# Altium integrated library Altera APEX 20KE.IntLib: 235 symbols (part 43 of 49)
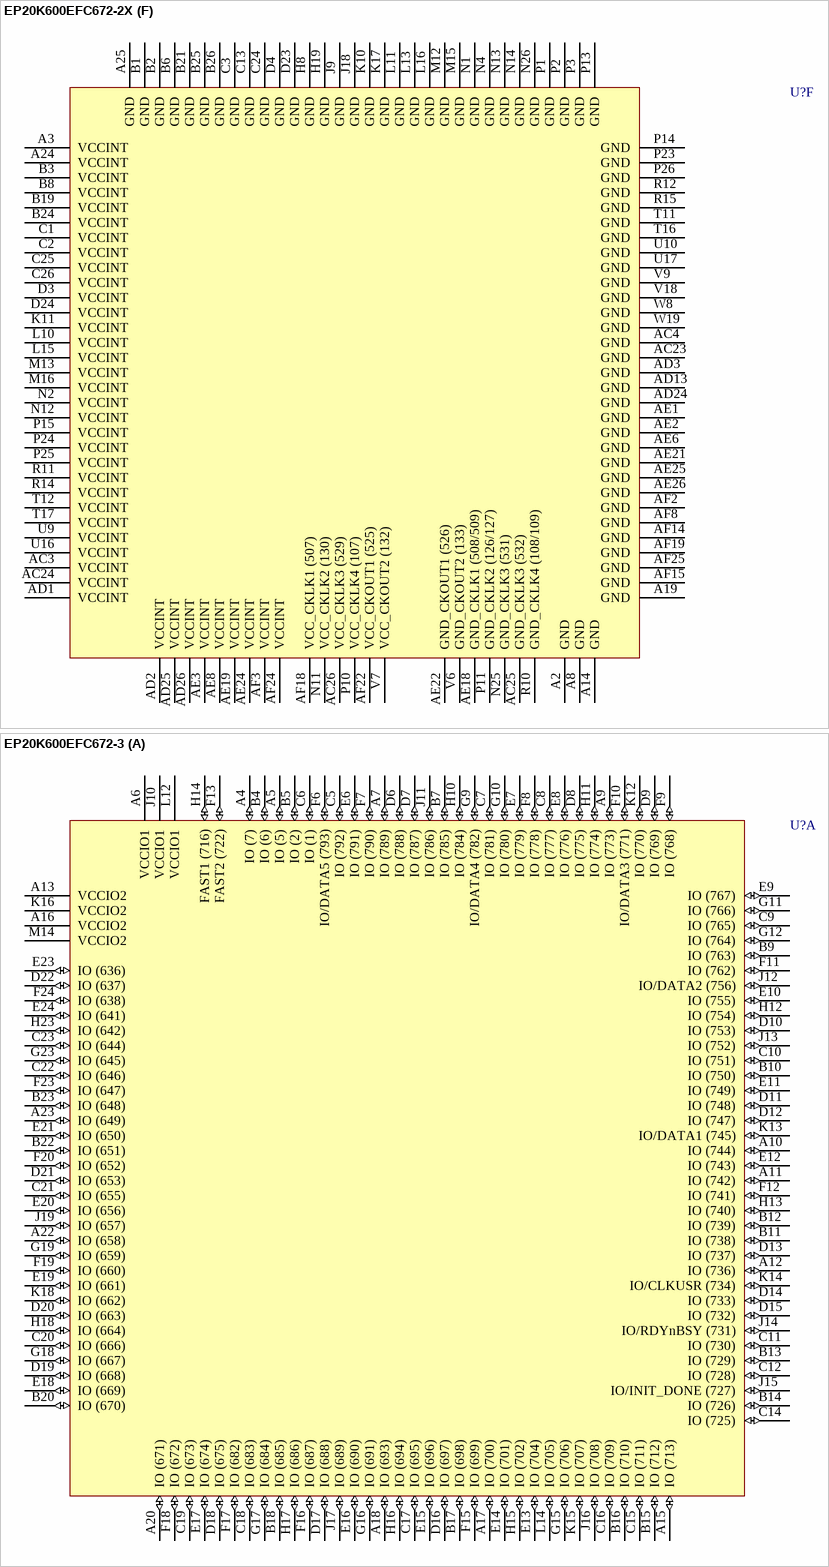
[diagram p441: symbols EP20K600EFC672-2X to EP20K600EFC672-3]

## EP20K1000EFC33-3
designator U?
APEX 20K1000E PLD, 1020-Pin FBGA, Commercial Grade, Speed Grade 3; Published: 17-Jul-2002; LatestRevisionDate: 13-Apr-2006; LatestRevisionNote: IPC-7351 Footprint Added.; DatasheetVersion: Mar-2004; PackageVersion: ver14.1, Oct-2005; PackageReference: FBGA1020; Publisher: Altium Limited; PackageDescription: 1020-Ball FineLine Ball Grid Array (FBGA1020) - Flip Chip; Code_JEDEC: MS-034-AAP-1; ComponentLink1Description: Manufacturer Link; ComponentLink1URL: http://www.altera.com/products/devices/apex/apx-index.html; ComponentLink2Description: Datasheet; ComponentLink2URL: http://www.altera.com/literature/ds/apex.pdf
footprint FBGA1020 (BGA, 1020-Leads, Body 33x33mm, Pitch 1mm)
3D model EP20K1000E-FBGA1020 (1020-Ball FineLine Ball Grid Array (FBGA1020) - Flip Chip)
part A pins: A3 VCCIO1 (power), A5 IO/DATA5 (942) (io), A7 VCCIO1 (power), A8 IO/DATA3 (907) (io), A9 IO/DATA2 (887) (io), A10 IO/DATA1 (870) (io), A12 VCCIO1 (power), A13 IO/CLKUSR (852) (io), A14 IO/RDYnBSY (847) (io), A15 IO/INIT_DONE (842) (io), A19 FAST2 (835) (io), A20 FAST1 (829) (io), B5 IO/DATA4 (924) (io), B7 VCCIO1 (power), B8 IO (932) (io), B9 IO (920) (io), B10 IO (909) (io), B12 VCCIO1 (power), B13 IO (874) (io), B14 IO (862) (io), B15 IO (850) (io), C5 IO (1) (io), C8 IO (933) (io), C9 IO (921) (io), C10 IO (910) (io), C13 IO (875) (io), C14 IO (863) (io), C15 IO (851) (io), C16 IO (838) (io), D5 IO (2) (io), D8 IO (934) (io), D9 IO (922) (io), D10 IO (911) (io), D13 IO (877) (io), D14 IO (864) (io), D15 IO (853) (io), D16 IO (839) (io), E4 IO (5) (io), E5 IO (6) (io), E6 IO (7) (io), E7 IO (940) (io), E8 IO (935) (io), E9 IO (923) (io), E10 IO (912) (io), E11 IO (900) (io), E12 IO (885) (io), E13 IO (878) (io), E14 IO (866) (io), E15 IO (855) (io), E16 IO (840) (io), F7 IO (941) (io), F8 IO (936) (io), F9 IO (925) (io), F10 IO (913) (io), F11 IO (901) (io), F12 IO (893) (io), F13 IO (879) (io), F14 IO (867) (io), F15 IO (856) (io), F16 IO (841) (io), G8 IO (938) (io), G9 IO (927) (io), G10 IO (914) (io), G11 IO (902) (io), G12 IO (895) (io), G13 IO (880) (io), G14 IO (868) (io), G15 IO (857) (io), G16 IO (844) (io), H8 IO (939) (io), H9 IO (928) (io), H10 IO (916) (io), H11 IO (903) (io), H12 IO (896) (io), H13 IO (881) (io), H14 IO (869) (io), H15 IO (858) (io), H16 IO (845) (io), J9 IO (929) (io), J10 IO (917) (io), J11 IO (905) (io), J12 IO (897) (io), J13 IO (882) (io), J14 IO (871) (io), J15 IO (859) (io), J16 IO (846) (io), K9 IO (930) (io), K10 IO (918) (io), K11 IO (906) (io), K12 IO (898) (io), K13 IO (883) (io), K14 IO (872) (io), K15 IO (860) (io), K16 IO (848) (io), L9 IO (931) (io), L10 IO (919) (io), L11 IO (908) (io), L12 IO (899) (io), L13 IO (884) (io), L14 IO (873) (io), L15 IO (861) (io), L16 IO (849) (io)
part B pins: A21 VCCIO2 (power), A25 IO (738) (io), A26 VCCIO2 (power), A28 IO (720) (io), A30 VCCIO2 (power), B18 IO (815) (io), B19 IO (804) (io), B20 IO (793) (io), B21 VCCIO2 (power), B23 IO (760) (io), B24 IO (749) (io), B25 IO (737) (io), B26 VCCIO2 (power), B28 IO (719) (io), C17 IO (825) (io), C18 IO (814) (io), C19 IO (803) (io), C20 IO (792) (io), C23 IO (759) (io), C24 IO (748) (io), C25 IO (735) (io), C28 IO (715) (io), C29 IO (718) (io), D17 IO (824) (io), D18 IO (813) (io), D19 IO (802) (io), D20 IO (791) (io), D23 IO (757) (io), D24 IO (746) (io), D25 IO (734) (io), D29 IO (713) (io), D30 IO (714) (io), E17 IO (823) (io), E18 IO (812) (io), E19 IO (801) (io), E20 IO (790) (io), E21 IO (782) (io), E22 IO (767) (io), E23 IO (756) (io), E24 IO (745) (io), E25 IO (733) (io), E26 IO (726) (io), E27 IO (722) (io), F17 IO (822) (io), F18 IO (811) (io), F19 IO (800) (io), F20 IO (789) (io), F21 IO (781) (io), F22 IO (766) (io), F23 IO (755) (io), F24 IO (744) (io), F25 IO (732) (io), F26 IO (724) (io), F27 IO (721) (io), G17 IO (821) (io), G18 IO (810) (io), G19 IO (799) (io), G20 IO (788) (io), G21 IO (780) (io), G22 IO (765) (io), G23 IO (754) (io), G24 IO (743) (io), G25 IO (731) (io), G26 IO (723) (io), H17 IO (819) (io), H18 IO (808) (io), H19 IO (797) (io), H20 IO (786) (io), H21 IO (779) (io), H22 IO (764) (io), H23 IO (753) (io), H24 IO (742) (io), H25 IO (730) (io), J17 IO (818) (io), J18 IO (807) (io), J19 IO (796) (io), J20 IO (785) (io), J21 IO (778) (io), J22 IO (763) (io), J23 IO (752) (io), J24 IO (741) (io), J25 IO (729) (io), K17 IO (817) (io), K18 IO (806) (io), K19 IO (795) (io), K20 IO (784) (io), K21 IO (776) (io), K22 IO (762) (io), K23 IO (751) (io), K24 IO (740) (io), K25 IO (728) (io), L17 IO (816) (io), L18 IO (805) (io), L19 IO (794) (io), L20 IO (783) (io), L21 IO (769) (io), L22 IO (761) (io), L23 IO (750) (io), L24 IO (739) (io), L25 IO (727) (io)
part C pins: A29 IO/LVDSRXINCLK1n (609) (io), AC31 IO/LVDSRX05n (628) (io), AC32 IO/LVDSRX05p (627) (io), AD31 IO/LVDSRX04p (624) (io), AD32 IO/LVDSRX04n (623) (io), AE31 IO/LVDSRX03n (621) (io), AE32 IO/LVDSRX03p (620) (io), AH31 IO/LVDSRX02p (618) (io), AH32 IO/LVDSRX02n (617) (io), AJ31 IO/LVDSRX01n (615) (io), AJ32 IO/LVDSRX01p (614) (io), AL29 IO/CLKLK_OUT1n (603) (io), B29 IO/LVDSRXINCLK1p (608) (io), C32 VCCIO3 (power), D28 IO (710) (io), D31 IO/LVDSRX16p (663) (io), D32 IO/LVDSRX16n (662) (io), E28 IO (707) (io), E29 IO (708) (io), E30 IO (709) (io), E31 IO/LVDSRX15n (660) (io), E32 IO/LVDSRX15p (659) (io), F28 IO (704) (io), G27 IO (702) (io), G28 IO (703) (io), G31 VCCIO3 (power), G32 VCCIO3 (power), H26 IO (697) (io), H27 IO (698) (io), H28 IO (700) (io), H29 IO (701) (io), H30 IO/LOCK3 (616) (io), H31 IO/LVDSRX14p (657) (io), H32 IO/LVDSRX14n (656) (io), J26 IO (691) (io), J27 IO (694) (io), J28 IO (695) (io), J29 IO (696) (io), J31 IO/LVDSRX13n (654) (io), J32 IO/LVDSRX13p (653) (io), K26 IO (687) (io), K27 IO (688) (io), K28 IO (689) (io), K29 IO (690) (io), K31 IO/LVDSRX12p (650) (io), K32 IO/LVDSRX12n (649) (io), L26 IO (683) (io), L27 IO (684) (io), L28 IO (685) (io), M22 IO (675) (io), M23 IO (676) (io), M25 IO (677) (io), M26 IO (678) (io), M27 IO (681) (io), M28 IO (682) (io), M31 VCCIO3 (power), M32 VCCIO3 (power), N22 IO (661) (io), N23 IO (668) (io), N25 IO (669) (io), N26 IO (670) (io), N27 IO (671) (io), N28 IO (672) (io), N29 IO (674) (io), N31 IO/LVDSRX11n (647) (io), N32 IO/LVDSRX11p (646) (io), P22 IO (622) (io), P25 IO (629) (io), P26 IO (635) (io), P27 IO (642) (io), P28 IO (648) (io), P29 IO (655) (io), P31 IO/LVDSRX10p (644) (io), P32 IO/LVDSRX10n (643) (io), R28 IO (610) (io), R29 IO (611) (io), R31 IO/LVDSRX09n (641) (io), R32 IO/LVDSRX09p (640) (io), V31 IO/LVDSRX08p (637) (io), V32 IO/LVDSRX08n (636) (io), W31 IO/LVDSRX07n (634) (io), W32 IO/LVDSRX07p (633) (io), Y31 IO/LVDSRX06p (631) (io), Y32 IO/LVDSRX06n (630) (io)
part D pins: AA22 IO (514) (io), AA23 IO (515) (io), AA24 IO (516) (io), AA25 IO (518) (io), AA26 IO (519) (io), AA27 IO (520) (io), AA28 IO (521) (io), AA31 VCCIO4 (power), AA32 VCCIO4 (power), AB26 IO (509) (io), AB27 IO (512) (io), AB28 IO (513) (io), AC26 IO (505) (io), AC27 IO (506) (io), AC28 IO (507) (io), AC29 IO (508) (io), AC30 IO/LOCK1 (576) (io), AD26 IO (499) (io), AD27 IO (500) (io), AD28 IO (501) (io), AD29 IO (502) (io), AD30 IO (503) (io), AE26 IO (492) (io), AE27 IO (493) (io), AE28 IO (494) (io), AE29 IO (495) (io), AE30 IO (496) (io), AF27 IO (489) (io), AF28 IO (490) (io), AF31 VCCIO4 (power), AF32 VCCIO4 (power), AG27 IO (487) (io), AG28 IO (488) (io), AH28 IO (482) (io), AH29 IO (483) (io), AH30 IO (486) (io), AJ29 IO (480) (io), AJ30 IO (481) (io), AK32 VCCIO4 (power), AM28 IO/CLKLK_FB1n (586) (io), N30 CLK1p (595) (in), R22 IO (573) (io), R23 IO (574) (io), R24 IO (575) (io), R25 IO (579) (io), R26 IO (580) (io), R27 IO (581) (io), T22 IO (563) (io), T23 IO (566) (io), T25 IO (567) (io), T26 IO (568) (io), T27 IO (569) (io), T28 IO (570) (io), T29 IO (572) (io), U22 IO (554) (io), U23 IO (555) (io), U24 IO (556) (io), U25 IO (557) (io), U26 IO (559) (io), U27 IO (560) (io), U28 IO (561) (io), U29 IO (562) (io), V22 IO (544) (io), V23 IO (546) (io), V25 IO (547) (io), V26 IO (548) (io), V27 IO (549) (io), V28 IO (550) (io), V29 IO (553) (io), V30 IO/CLK1n (590) (io), W22 IO (535) (io), W23 IO (536) (io), W25 IO (537) (io), W26 IO (540) (io), W27 IO (541) (io), W28 IO (542) (io), W29 IO (543) (io), W30 CLK3p (589) (in), Y22 IO (522) (io), Y23 IO (527) (io), Y24 IO (528) (io), Y25 IO (529) (io), Y26 IO (530) (io), Y27 IO (531) (io), Y28 IO (533) (io), Y29 IO (534) (io), Y30 IO/CLK3n (588) (io)
part E pins: AB17 IO (378) (io), AB18 IO (389) (io), AB19 IO (400) (io), AB20 IO (411) (io), AB21 IO (425) (io), AB22 IO (432) (io), AB23 IO (445) (io), AB24 IO (457) (io), AB25 IO (469) (io), AC17 IO (377) (io), AC18 IO (388) (io), AC19 IO (399) (io), AC20 IO (410) (io), AC21 IO (424) (io), AC22 IO (431) (io), AC23 IO (443) (io), AC24 IO (456) (io), AC25 IO (468) (io), AD17 IO (376) (io), AD18 IO (387) (io), AD19 IO (398) (io), AD20 IO (409) (io), AD21 IO (422) (io), AD22 IO (430) (io), AD23 IO (442) (io), AD24 IO (454) (io), AD25 IO (467) (io), AE17 IO (375) (io), AE18 IO (386) (io), AE19 IO (397) (io), AE20 IO (408) (io), AE21 IO (416) (io), AE22 IO (429) (io), AE23 IO (441) (io), AE24 IO (453) (io), AE25 IO (465) (io), AF17 IO (374) (io), AF18 IO (385) (io), AF19 IO (396) (io), AF20 IO (407) (io), AF21 IO (414) (io), AF22 IO (428) (io), AF23 IO (440) (io), AF24 IO (452) (io), AF25 IO (464) (io), AF26 IO (472) (io), AG17 IO (373) (io), AG18 IO (384) (io), AG19 IO (395) (io), AG20 IO (406) (io), AG21 IO (413) (io), AG22 IO (427) (io), AG23 IO (439) (io), AG24 IO (451) (io), AG25 IO (463) (io), AG26 IO (471) (io), AH17 IO (371) (io), AH18 IO (382) (io), AH19 IO (393) (io), AH20 IO (404) (io), AH21 IO (412) (io), AH22 IO (426) (io), AH23 IO (438) (io), AH24 IO (450) (io), AH25 IO (462) (io), AH26 IO (470) (io), AH27 IO (473) (io), AJ16 IO (367) (io), AJ17 IO (370) (io), AJ18 IO (381) (io), AJ19 IO (392) (io), AJ20 IO (403) (io), AJ23 IO (437) (io), AJ24 IO (449) (io), AJ25 IO (461) (io), AJ28 IO (478) (io), AK16 IO (368) (io), AK17 IO (369) (io), AK18 IO (380) (io), AK19 IO (391) (io), AK20 IO (402) (io), AK23 IO (436) (io), AK24 IO (448) (io), AK25 IO (460) (io), AK28 IO (476) (io), AK29 IO (477) (io), AL18 IO (379) (io), AL19 IO (390) (io), AL20 IO (401) (io), AL21 VCCIO5 (power), AL23 IO (435) (io), AL24 IO (447) (io), AL25 IO (459) (io), AL26 VCCIO5 (power), AM15 FAST4 (358) (io), AM18 FAST3 (364) (io), AM21 VCCIO5 (power), AM23 IO (434) (io), AM24 IO (446) (io), AM25 IO (458) (io), AM26 VCCIO5 (power), AM30 VCCIO5 (power)
part F pins: AB8 IO (258) (io), AB9 IO (270) (io), AB10 IO (282) (io), AB11 IO (293) (io), AB12 IO (306) (io), AB13 IO (314) (io), AB14 IO (325) (io), AB15 IO (336) (io), AB16 IO (347) (io), AC8 IO (259) (io), AC9 IO (271) (io), AC10 IO (283) (io), AC11 IO (294) (io), AC12 IO (308) (io), AC13 IO (315) (io), AC14 IO (326) (io), AC15 IO (337) (io), AC16 IO (348) (io), AD8 IO (260) (io), AD9 IO (272) (io), AD10 IO (284) (io), AD11 IO (295) (io), AD12 IO (309) (io), AD13 IO (316) (io), AD14 IO (327) (io), AD15 IO (338) (io), AD16 IO (351) (io), AE8 IO (261) (io), AE9 IO (273) (io), AE10 IO (285) (io), AE11 IO (296) (io), AE12 IO (310) (io), AE13 IO (318) (io), AE14 IO (329) (io), AE15 IO (340) (io), AE16 IO (352) (io), AF6 IO (244) (io), AF7 IO (254) (io), AF8 IO (262) (io), AF9 IO (274) (io), AF10 IO (286) (io), AF11 IO (297) (io), AF12 IO (311) (io), AF13 IO (319) (io), AF14 IO (330) (io), AF15 IO (341) (io), AF16 IO (353) (io), AG5 IO (245) (io), AG6 IO (246) (io), AG7 IO (255) (io), AG8 IO (263) (io), AG9 IO (275) (io), AG10 IO (287) (io), AG11 IO (298) (io), AG12 IO (312) (io), AG13 IO (320) (io), AG14 IO (331) (io), AG15 IO (342) (io), AG16 IO (354) (io), AH4 IO (249) (io), AH5 IO (250) (io), AH6 IO (253) (io), AH7 IO (257) (io), AH8 IO (264) (io), AH9 IO (276) (io), AH10 IO (288) (io), AH11 IO (300) (io), AH12 IO (313) (io), AH13 IO (321) (io), AH14 IO (332) (io), AH15 IO (343) (io), AH16 IO (355) (io), AJ4 IO (251) (io), AJ5 IO (252) (io), AJ8 IO (265) (io), AJ9 IO (277) (io), AJ10 IO (290) (io), AJ13 IO (322) (io), AJ14 IO (333) (io), AJ15 IO (344) (io), AK8 IO (266) (io), AK9 IO (279) (io), AK10 IO (291) (io), AK13 IO (323) (io), AK14 IO (334) (io), AK15 IO (345) (io), AL7 VCCIO6 (power), AL8 IO (268) (io), AL9 IO (280) (io), AL10 IO (292) (io), AL12 VCCIO6 (power), AL13 IO (324) (io), AL14 IO (335) (io), AL15 IO (346) (io), AM3 VCCIO6 (power), AM7 VCCIO6 (power), AM8 IO (269) (io), AM9 IO (281) (io), AM10 IO/LVDSDESKEW (349) (io), AM12 VCCIO6 (power)
part G pins: AA1 VCCIO7 (power), AA2 VCCIO7 (power), AA5 IO (215) (io), AA6 IO (216) (io), AA7 IO (217) (io), AA8 IO (219) (io), AA10 IO (220) (io), AA11 IO (221) (io), AB5 IO (222) (io), AB6 IO (223) (io), AB7 IO (226) (io), AC1 IO/LVDSTX12n (181) (io), AC2 IO/LVDSTX12p (182) (io), AC4 IO (227) (io), AC5 IO (228) (io), AC6 IO (229) (io), AC7 IO (230) (io), AD1 IO/LVDSTX13p (185) (io), AD2 IO/LVDSTX13n (186) (io), AD4 IO (232) (io), AD5 IO (233) (io), AD6 IO (234) (io), AD7 IO (235) (io), AE1 IO/LVDSTX14n (188) (io), AE2 IO/LVDSTX14p (189) (io), AE3 IO/DEV_OE (133) (io), AE4 IO (236) (io), AE5 IO (239) (io), AE6 IO (240) (io), AE7 IO (241) (io), AF1 VCCIO7 (power), AF2 VCCIO7 (power), AF5 IO (242) (io), AH1 IO/LVDSTX15p (191) (io), AH2 IO/LVDSTX15n (192) (io), AJ1 IO/LVDSTX16n (194) (io), AJ2 IO/LVDSTX16p (195) (io), AJ3 IO/CLKLK_OUT2n (137) (io), AK1 VCCIO7 (power), AK4 IO/LOCK2 (141) (io), AK5 IO/LOCK4 (161) (io), AL4 IO/LVDSTXOUTCLK1p (143) (io), AL5 IO/LVDSTXINCLK1n (140) (io), AM4 IO/LVDSTXOUTCLK1n (142) (io), AM5 IO/LVDSTXINCLK1p (139) (io), D1 IO/LVDSTX01p (146) (io), D2 IO/LVDSTX01n (147) (io), E1 IO/LVDSTX02n (149) (io), E2 IO/LVDSTX02p (150) (io), H1 IO/LVDSTX03p (152) (io), H2 IO/LVDSTX03n (153) (io), J1 IO/LVDSTX04n (155) (io), J2 IO/LVDSTX04p (156) (io), K1 IO/LVDSTX05p (159) (io), K2 IO/LVDSTX05n (160) (io), N1 IO/LVDSTX06n (162) (io), N2 IO/LVDSTX06p (163) (io), P1 IO/LVDSTX07p (165) (io), P2 IO/LVDSTX07n (166) (io), R1 IO/LVDSTX08n (168) (io), R2 IO/LVDSTX08p (169) (io), V1 IO/LVDSTX09p (172) (io), V2 IO/LVDSTX09n (173) (io), V6 IO (148) (io), V7 IO (154) (io), V8 IO (167) (io), V10 IO (174) (io), V11 IO (180) (io), W1 IO/LVDSTX10n (175) (io), W2 IO/LVDSTX10p (176) (io), W4 IO (187) (io), W5 IO (193) (io), W6 IO (200) (io), W7 IO (201) (io), W8 IO (202) (io), W10 IO (203) (io), W11 IO (204) (io), Y1 IO/LVDSTX11p (178) (io), Y2 IO/LVDSTX11n (179) (io), Y4 IO (206) (io), Y5 IO (207) (io), Y6 IO (208) (io), Y7 IO (209) (io), Y8 IO (210) (io), Y10 IO (213) (io), Y11 IO (214) (io)
part H pins: A4 IO/DATA6 (78) (io), B4 IO/DATA7 (85) (io), C1 VCCIO8 (power), C4 IO/nWS (91) (io), D3 IO/nCS (104) (io), D4 IO/nRS (98) (io), E3 IO/CS (112) (io), F5 IO (10) (io), F6 IO (11) (io), G1 VCCIO8 (power), G2 VCCIO8 (power), G5 IO (12) (io), G6 IO (13) (io), G7 IO (16) (io), H3 IO/DEV_CLRn (114) (io), H4 IO (17) (io), H5 IO (18) (io), H6 IO (19) (io), H7 IO (20) (io), J3 IO/CLKLK_FB2n (116) (io), J4 IO (22) (io), J5 IO (23) (io), J6 IO (24) (io), J7 IO (25) (io), J8 IO (26) (io), K4 IO (29) (io), K5 IO (30) (io), K6 IO (31) (io), K7 IO (32) (io), K8 IO (33) (io), L5 IO (35) (io), L6 IO (36) (io), L7 IO (37) (io), L8 IO (38) (io), M1 VCCIO8 (power), M2 VCCIO8 (power), M5 IO (39) (io), M6 IO (42) (io), M7 IO (43) (io), M8 IO (44) (io), M9 IO (45) (io), M10 IO (46) (io), M11 IO (48) (io), N3 IO/CLK4n (118) (io), N4 IO (49) (io), N5 IO (50) (io), N6 IO (51) (io), N7 IO (52) (io), N8 IO (57) (io), N9 IO (58) (io), N10 IO (59) (io), N11 IO (60) (io), P3 CLK4p (119) (in), P4 IO (61) (io), P5 IO (63) (io), P6 IO (64) (io), P7 IO (65) (io), P8 IO (66) (io), P10 IO (67) (io), P11 IO (70) (io), R3 IO/CLK2n (120) (io), R4 IO (71) (io), R5 IO (72) (io), R6 IO (73) (io), R7 IO (74) (io), R8 IO (76) (io), R9 IO (79) (io), R10 IO (77) (io), R11 IO (80) (io), T4 IO (83) (io), T5 IO (84) (io), T6 IO (86) (io), T7 IO (87) (io), T8 IO (89) (io), T10 IO (90) (io), T11 IO (92) (io), U4 IO (93) (io), U5 IO (96) (io), U6 IO (97) (io), U7 IO (99) (io), U8 IO (100) (io), U9 IO (102) (io), U10 IO (103) (io), U11 IO (105) (io), V4 IO (106) (io), V5 IO (113) (io), Y3 CLK2p (125) (in)
part I pins: A18 TDO (836) (out), A23 nCEO (828) (out), A24 TRST (827) (in), AC3 nCE (126) (in), AD3 TDI (127) (in), AH3 CLKLK_OUT2p (136) (out), AL28 CLKLK_FB1p (587) (in), AM13 CONF_DONE (356) (io), AM14 nSTATUS (357) (io), AM19 TCK (365) (in), AM20 TMS (366) (in), AM29 CLKLK_OUT1p (602) (out), J30 MSEL0 (597) (in), K3 CLKLK_FB2p (117) (in), K30 MSEL1 (596) (in), P30 CLKLK_ENA (594) (in), R30 nCONFIG (593) (in), V3 DATA0 (123) (in), W3 DCLK (124) (in)
part J pins: A2 VCCINT (power), A6 VCCINT (power), A11 VCCINT (power), A16 VCCINT (power), A17 GND (power), A22 VCCINT (power), A27 VCCINT (power), A31 VCCINT (power), AA3 GND (power), AA4 GND (power), AA9 VCC_CKOUT2 (134) (power), AA29 GND (power), AA30 GND (power), AB1 VCCINT (power), AB2 VCCINT (power), AB3 GND (power), AB4 GND (power), AB29 GND (power), AB30 GND (power), AB31 VCCINT (power), AB32 VCCINT (power), AF3 GND (power), AF4 GND (power), AF29 GND (power), AF30 GND (power), AG1 VCCINT (power), AG2 VCCINT (power), AG3 GND (power), AG4 GND (power), AG29 GND (power), AG30 GND (power), AG31 VCCINT (power), AG32 VCCINT (power), AJ6 GND (power), AJ7 GND (power), AJ11 GND (power), AJ12 GND (power), AJ21 GND (power), AJ22 GND (power), AJ26 GND (power), AJ27 GND (power), AK2 GND (power), AK3 GND (power), AK6 GND (power), AK7 GND (power), AK11 GND (power), AK12 GND (power), AK21 GND (power), AK22 GND (power), AK26 GND (power), AK27 GND (power), AK30 GND (power), AK31 GND (power), AL1 VCCINT (power), AL2 GND (power), AL3 GND (power), AL6 VCCINT (power), AL11 VCCINT (power), AL16 GND (power), AL17 VCCINT (power), AL22 VCCINT (power), AL27 VCCINT (power), AL30 GND (power), AL31 GND (power), AL32 VCCINT (power), AM2 VCCINT (power), AM6 VCCINT (power), AM11 VCCINT (power), AM16 GND (power), AM17 VCCINT (power), AM22 VCCINT (power), AM27 VCCINT (power), AM31 VCCINT (power), B1 VCCINT (power), B2 GND (power), B3 GND (power), B6 VCCINT (power), B11 VCCINT (power), B16 VCCINT (power), B17 GND (power), B22 VCCINT (power), B27 VCCINT (power), B30 GND (power), B31 GND (power), B32 VCCINT (power), C2 GND (power), C3 GND (power), C6 GND (power), C7 GND (power), C11 GND (power), C12 GND (power), C21 GND (power), C22 GND (power), C26 GND (power), C27 GND (power), C30 GND (power), C31 GND (power), D6 GND (power), D7 GND (power), D11 GND (power), D12 GND (power), D21 GND (power), D22 GND (power), D26 GND (power), D27 GND (power), F1 VCCINT (power), F2 VCCINT (power), F3 GND (power), F4 GND (power), F29 GND (power), F30 GND (power), F31 VCCINT (power), F32 VCCINT (power), G3 GND (power), G4 GND (power), G29 GND (power), G30 GND (power), L1 VCCINT (power), L2 VCCINT (power), L3 GND (power), L4 GND (power), L29 GND (power), L30 GND (power), L31 VCCINT (power), L32 VCCINT (power), M3 GND (power), M4 GND (power), M24 VCC_CKLK3 (604) (power), M29 GND (power), M30 GND (power), N24 VCC_CKOUT1 (600) (power), P9 VCC_CKLK4 (109) (power), P23 GND_CKLK3 (606) (power), P24 GND_CKLK3 (607) (power), T1 GND (power), T2 GND (power), T3 GND (power), T9 GND_CKLK4 (110/111) (power), T24 GND_CKOUT1 (601) (power), T30 VCCINT (power), T31 VCCINT (power), T32 VCCINT (power), U1 VCCINT (power), U2 VCCINT (power), U3 VCCINT (power), U30 GND (power), U31 GND (power), U32 GND (power), V9 GND_CKLK2 (128/129) (power), V24 GND_CKLK1 (583/584) (power), W9 GND_CKOUT2 (135) (power), W24 VCC_CKLK1 (582) (power), Y9 VCC_CKLK2 (132) (power)
part K pins: AA12 NC, AA13 NC, AA14 NC, AA15 NC, AA16 NC, AA17 NC, AA18 NC, AA19 NC, AA20 NC, AA21 NC, M12 NC, M13 NC, M14 NC, M15 NC, M16 NC, M17 NC, M18 NC, M19 NC, M20 NC, M21 NC, N12 NC, N13 NC, N14 NC, N15 NC, N16 NC, N17 NC, N18 NC, N19 NC, N20 NC, N21 NC, P12 NC, P13 NC, P14 NC, P15 NC, P16 NC, P17 NC, P18 NC, P19 NC, P20 NC, P21 NC, R12 NC, R13 NC, R14 NC, R15 NC, R16 NC, R17 NC, R18 NC, R19 NC, R20 NC, R21 NC, T12 NC, T13 NC, T14 NC, T15 NC, T16 NC, T17 NC, T18 NC, T19 NC, T20 NC, T21 NC, U12 NC, U13 NC, U14 NC, U15 NC, U16 NC, U17 NC, U18 NC, U19 NC, U20 NC, U21 NC, V12 NC, V13 NC, V14 NC, V15 NC, V16 NC, V17 NC, V18 NC, V19 NC, V20 NC, V21 NC, W12 NC, W13 NC, W14 NC, W15 NC, W16 NC, W17 NC, W18 NC, W19 NC, W20 NC, W21 NC, Y12 NC, Y13 NC, Y14 NC, Y15 NC, Y16 NC, Y17 NC, Y18 NC, Y19 NC, Y20 NC, Y21 NC

## EP20K1000EFC672-1
designator U?
APEX 20K1000E PLD, 672-Pin FBGA, Commercial Grade, Speed Grade 1; Published: 17-Jul-2002; LatestRevisionDate: 13-Apr-2006; LatestRevisionNote: IPC-7351 Footprint Added.; DatasheetVersion: Mar-2004; PackageVersion: ver14.1, Oct-2005; PackageReference: FBGA672; Publisher: Altium Limited; PackageDescription: 672-Ball FineLine Ball Grid Array (FBGA672) - Flip Chip; Code_JEDEC: MS-034-AAL-1; ComponentLink1Description: Manufacturer Link; ComponentLink1URL: http://www.altera.com/products/devices/apex/apx-index.html; ComponentLink2Description: Datasheet; ComponentLink2URL: http://www.altera.com/literature/ds/apex.pdf
footprint FBGA672 (BGA, 672-Leads, Body 27x27mm, Pitch 1mm)
3D model EP20K1000E-FBGA672T (672-Ball FineLine Ball Grid Array (FBGA672) - Flip Chip)
part A pins: A4 IO (7) (io), A5 IO (5) (io), A6 VCCIO1 (power), A7 IO (935) (io), A9 IO (910) (io), A10 IO (868) (io), A11 IO (864) (io), A12 IO (856) (io), A13 VCCIO2 (power), A15 IO (825) (io), A16 VCCIO2 (power), A17 IO (803) (io), A18 IO (793) (io), A20 IO (763) (io), A22 IO (743) (io), A23 IO (728) (io), B4 IO (6) (io), B5 IO (2) (io), B7 IO (930) (io), B9 IO (895) (io), B10 IO (879) (io), B11 IO (860) (io), B12 IO (861) (io), B13 IO (845) (io), B14 IO (840) (io), B15 IO (823) (io), B16 IO (819) (io), B17 IO (801) (io), B18 IO (781) (io), B20 IO (762) (io), B22 IO (730) (io), B23 IO (727) (io), C5 IO (940) (io), C6 IO (1) (io), C7 IO (922) (io), C8 IO (917) (io), C9 IO (898) (io), C10 IO (880) (io), C11 IO (846) (io), C12 IO (844) (io), C14 IO (838) (io), C15 IO (821) (io), C16 IO (818) (io), C17 IO (797) (io), C18 IO (778) (io), C19 IO (765) (io), C20 IO (755) (io), C21 IO (738) (io), C22 IO (724) (io), C23 IO (720) (io), D6 IO (934) (io), D7 IO (933) (io), D8 IO (914) (io), D9 IO (902) (io), D10 IO (882) (io), D11 IO (875) (io), D12 IO (873) (io), D13 IO (858) (io), D14 IO (850) (io), D15 IO (848) (io), D16 IO (800) (io), D17 IO (784) (io), D18 IO (769) (io), D19 IO (760) (io), D20 IO (750) (io), D21 IO (734) (io), D22 IO (714) (io), E6 IO (938) (io), E7 IO (919) (io), E8 IO (916) (io), E9 IO (900) (io), E10 IO (885) (io), E11 IO (878) (io), E12 IO (866) (io), E13 IO (811) (io), E14 IO (805) (io), E15 IO (799) (io), E16 IO (788) (io), E17 IO (767) (io), E18 IO (761) (io), E19 IO (746) (io), E20 IO (740) (io), E21 IO (729) (io), E23 IO (713) (io), E24 IO (718) (io), F6 IO/DATA5 (942) (io), F7 IO (936) (io), F8 IO (918) (io), F9 IO (901) (io), F10 IO/DATA3 (907) (io), F11 IO (893) (io), F12 IO (863) (io), F13 FAST2 (835) (io), F15 IO (802) (io), F16 IO (783) (io), F17 IO (776) (io), F18 IO (764) (io), F19 IO (745) (io), F20 IO (732) (io), F23 IO (726) (io), F24 IO (715) (io), G9 IO/DATA4 (924) (io), G10 IO (920) (io), G11 IO (899) (io), G12 IO (897) (io), G15 IO (815) (io), G16 IO (790) (io), G17 IO (780) (io), G18 IO (757) (io), G19 IO (744) (io), G23 IO (722) (io), H10 IO (928) (io), H11 IO (912) (io), H12 IO (883) (io), H13 IO (862) (io), H14 FAST1 (829) (io), H15 IO (807) (io), H16 IO (795) (io), H17 IO (782) (io), H18 IO (752) (io), H23 IO (719) (io), J10 VCCIO1 (power), J11 IO (932) (io), J12 IO/DATA2 (887) (io), J13 IO (881) (io), J14 IO/RDYnBSY (847) (io), J15 IO/INIT_DONE (842) (io), J16 IO (817) (io), J17 IO (785) (io), J19 IO (742) (io), K12 IO (905) (io), K13 IO/DATA1 (870) (io), K14 IO/CLKUSR (852) (io), K15 IO (816) (io), K16 VCCIO2 (power), K18 IO (748) (io), L12 VCCIO1 (power), L14 IO (813) (io), M14 VCCIO2 (power)
part B pins: A21 VCCIO3 (power), AA21 IO (481) (io), AA22 IO (520) (io), AA25 IO/LVDSRX01p (614) (io), AA26 IO/LVDSRX01n (615) (io), AB21 IO (488) (io), AB22 IO (494) (io), AB25 IO/LVDSRXINCLK1p (608) (io), AB26 IO/LVDSRXINCLK1n (609) (io), AF20 IO/CLKLK_FB1n (586) (io), AF23 IO/CLKLK_OUT1n (603) (io), D25 IO/LVDSRX16n (662) (io), D26 IO/LVDSRX16p (663) (io), E22 IO (709) (io), E25 IO/LVDSRX15p (659) (io), E26 IO/LVDSRX15n (660) (io), F21 IO (707) (io), F22 IO (700) (io), F25 IO/LVDSRX14n (656) (io), F26 IO/LVDSRX14p (657) (io), G20 IO (702) (io), G21 IO (694) (io), G22 IO (674) (io), G24 IO (687) (io), G25 IO/LVDSRX13p (653) (io), G26 IO/LVDSRX13n (654) (io), H20 IO (676) (io), H21 IO (689) (io), H22 IO (681) (io), H24 IO (661) (io), H25 IO/LVDSRX12n (649) (io), H26 IO/LVDSRX12p (650) (io), J20 IO (670) (io), J21 IO (696) (io), J22 IO (683) (io), J23 IO (610) (io), J24 IO (622) (io), J25 IO/LVDSRX11p (646) (io), J26 IO/LVDSRX11n (647) (io), K19 IO (668) (io), K20 IO (642) (io), K21 IO (629) (io), K22 IO (648) (io), K23 IO (635) (io), K24 IO (655) (io), K25 IO/LVDSRX10n (643) (io), K26 IO/LVDSRX10p (644) (io), L17 VCCIO3 (power), L18 IO/LOCK3 (616) (io), L19 IO (611) (io), L20 IO (557) (io), L21 IO/LOCK1 (576) (io), L22 IO (575) (io), L23 IO (579) (io), L24 IO (580) (io), L25 IO/LVDSRX09p (640) (io), L26 IO/LVDSRX09n (641) (io), M17 IO (559) (io), M18 IO (561) (io), M19 CLK3p (589) (in), M20 IO/CLK3n (588) (io), M21 IO (569) (io), M22 IO (572) (io), M23 IO (574) (io), M24 IO (570) (io), M25 IO/LVDSRX08n (636) (io), M26 IO/LVDSRX08p (637) (io), N15 VCCIO3 (power), N16 IO (537) (io), N17 IO (544) (io), N18 IO (553) (io), N19 IO (555) (io), N22 IO (556) (io), N23 IO (581) (io), N24 VCCIO4 (power), P17 IO (531) (io), P18 IO (543) (io), P19 IO/CLK1n (590) (io), P20 CLK1p (595) (in), P22 IO (550) (io), R16 VCCIO4 (power), R17 IO (527) (io), R18 IO (533) (io), R19 IO (541) (io), R20 IO (549) (io), R21 IO (547) (io), R22 IO (573) (io), R23 IO (563) (io), R24 IO (567) (io), R25 IO/LVDSRX07p (633) (io), R26 IO/LVDSRX07n (634) (io), T18 IO (501) (io), T19 IO (529) (io), T20 IO (535) (io), T21 IO (546) (io), T22 IO (560) (io), T23 IO (562) (io), T24 IO (568) (io), T25 IO/LVDSRX06n (630) (io), T26 IO/LVDSRX06p (631) (io), U18 VCCIO4 (power), U19 IO (490) (io), U20 IO (522) (io), U21 IO (530) (io), U22 IO (548) (io), U23 IO (554) (io), U24 IO (566) (io), U25 IO/LVDSRX05p (627) (io), U26 IO/LVDSRX05n (628) (io), V19 IO (496) (io), V20 IO (507) (io), V21 IO (509) (io), V22 IO (540) (io), V23 IO (542) (io), V24 IO (536) (io), V25 IO/LVDSRX04n (623) (io), V26 IO/LVDSRX04p (624) (io), W21 IO (503) (io), W22 IO (516) (io), W23 IO (528) (io), W24 IO (534) (io), W25 IO/LVDSRX03p (620) (io), W26 IO/LVDSRX03n (621) (io), Y21 IO (514) (io), Y22 IO (483) (io), Y25 IO/LVDSRX02n (617) (io), Y26 IO/LVDSRX02p (618) (io)
part C pins: AA3 IO (258) (io), AA4 IO (245) (io), AA8 IO (286) (io), AA9 IO (281) (io), AA10 IO (308) (io), AA11 IO (314) (io), AA16 IO (409) (io), AA17 IO (427) (io), AA18 IO (434) (io), AA19 IO (447) (io), AA20 IO (465) (io), AA23 IO (476) (io), AA24 IO (477) (io), AB3 IO (251) (io), AB4 IO (244) (io), AB7 IO (263) (io), AB8 IO (271) (io), AB9 IO (295) (io), AB10 IO (312) (io), AB11 IO (310) (io), AB12 IO (335) (io), AB13 IO (385) (io), AB14 IO (389) (io), AB15 IO (399) (io), AB16 IO (404) (io), AB17 IO (422) (io), AB18 IO (429) (io), AB19 IO (462) (io), AB20 IO (461) (io), AB23 IO (478) (io), AB24 IO (467) (io), AC5 IO (246) (io), AC6 IO (269) (io), AC7 IO (275) (io), AC8 IO (288) (io), AC9 IO (298) (io), AC10 IO (313) (io), AC11 IO (391) (io), AC12 IO (377) (io), AC13 IO (375) (io), AC14 IO (379) (io), AC15 IO (395) (io), AC16 IO (411) (io), AC17 IO (414) (io), AC18 IO (436) (io), AC19 IO (457) (io), AC20 IO (463) (io), AC21 IO (471) (io), AC22 IO (469) (io), AD4 IO (257) (io), AD5 IO (260) (io), AD6 IO (261) (io), AD7 IO (276) (io), AD8 IO (292) (io), AD9 IO (306) (io), AD10 IO (381) (io), AD11 IO (347) (io), AD12 IO (348) (io), AD14 IO (369) (io), AD15 IO (373) (io), AD16 IO (374) (io), AD17 IO (376) (io), AD18 IO (392) (io), AD19 IO (408) (io), AD20 IO (428) (io), AD21 IO (448) (io), AD22 IO (451) (io), AD23 IO (464) (io), AE4 IO (250) (io), AE5 IO (259) (io), AE7 IO (279) (io), AE9 IO (315) (io), AE10 IO (329) (io), AE11 IO (345) (io), AE12 IO (351) (io), AE13 IO (355) (io), AE14 IO (367) (io), AE15 IO (371) (io), AE16 IO (426) (io), AE17 IO (441) (io), AF4 IO (253) (io), AF5 IO (273) (io), AF7 IO (283) (io), AF9 IO (320) (io), AF10 IO (337) (io), AF11 IO (325) (io), AF12 IO (353) (io), AF13 VCCIO6 (power), AF16 IO (431) (io), AF17 IO (445) (io), AF21 VCCIO5 (power), R13 VCCIO6 (power), T9 IO (277) (io), T13 IO (332) (io), T14 IO (407) (io), T15 VCCIO5 (power), U11 VCCIO6 (power), U12 IO/LVDSDESKEW (349) (io), U13 IO (341) (io), U14 IO (393) (io), U15 IO (416) (io), V8 IO (274) (io), V10 VCCIO6 (power), V11 IO (311) (io), V12 IO (327) (io), V13 IO (346) (io), V14 IO (387) (io), V15 IO (397) (io), V16 IO (424) (io), V17 VCCIO5 (power), W9 IO (294) (io), W10 IO (296) (io), W11 IO (323) (io), W12 IO (330) (io), W13 IO (343) (io), W14 IO (333) (io), W15 IO (402) (io), W16 IO (412) (io), W17 IO (439) (io), W18 IO (446) (io), W20 IO (453) (io), Y3 IO (255) (io), Y4 IO (249) (io), Y7 IO (265) (io), Y8 IO (291) (io), Y9 IO (293) (io), Y10 IO (300) (io), Y11 IO (318) (io), Y12 IO (331) (io), Y13 FAST4 (358) (io), Y14 FAST3 (364) (io), Y15 IO (390) (io), Y16 IO (410) (io), Y17 IO (430) (io), Y18 IO (443) (io), Y19 IO (449) (io), Y20 IO (459) (io), Y23 IO (472) (io), Y24 IO (473) (io)
part D pins: AA1 IO/LVDSTX14n (188) (io), AA2 IO/LVDSTX14p (189) (io), AA5 IO (228) (io), AA6 IO (234) (io), AA7 IO (239) (io), AB1 IO/LVDSTX15p (191) (io), AB2 IO/LVDSTX15n (192) (io), AB5 IO (226) (io), AB6 IO (241) (io), AC1 IO/LVDSTX16n (194) (io), AC2 IO/LVDSTX16p (195) (io), AF6 VCCIO7 (power), C4 IO (46) (io), D1 IO/LVDSTXINCLK1p (139) (io), D2 IO/LVDSTXINCLK1n (140) (io), D5 IO (31) (io), E1 IO/LVDSTXOUTCLK1n (142) (io), E2 IO/LVDSTXOUTCLK1p (143) (io), E3 IO (13) (io), E4 IO (24) (io), E5 IO (11) (io), F1 IO/LVDSTX01p (146) (io), F2 IO/LVDSTX01n (147) (io), F3 IO (26) (io), F4 IO (20) (io), F5 IO (18) (io), G1 IO/LVDSTX02n (149) (io), G2 IO/LVDSTX02p (150) (io), G3 IO (37) (io), G4 IO (44) (io), G5 IO (33) (io), G6 IO (50) (io), G7 IO (57) (io), G8 IO (39) (io), H1 IO/LVDSTX03p (152) (io), H2 IO/LVDSTX03n (153) (io), H3 IO (66) (io), H4 IO (59) (io), H5 IO (52) (io), H6 IO (60) (io), H7 IO (58) (io), H9 IO (64) (io), J1 IO/LVDSTX04n (155) (io), J2 IO/LVDSTX04p (156) (io), J3 IO (76) (io), J4 IO (70) (io), J5 IO (63) (io), J6 IO (72) (io), J7 IO (74) (io), J8 IO (65) (io), K1 IO/LVDSTX05p (159) (io), K2 IO/LVDSTX05n (160) (io), K3 IO (67) (io), K4 IO (80) (io), K5 IO (71) (io), K6 IO (79) (io), K7 IO (61) (io), K8 IO (77) (io), K9 VCCIO8 (power), L1 IO/LVDSTX06n (162) (io), L2 IO/LVDSTX06p (163) (io), L3 IO (97) (io), L4 IO (96) (io), L5 IO (92) (io), L6 IO (73) (io), L7 IO (87) (io), L8 IO/DATA6 (78) (io), L9 IO (89) (io), M1 IO/LVDSTX07p (165) (io), M2 IO/LVDSTX07n (166) (io), M3 IO (102) (io), M4 IO (113) (io), M5 IO (100) (io), M6 IO (86) (io), M7 IO (90) (io), M8 IO (84) (io), M9 IO/nCS (104) (io), M10 IO/DATA7 (85) (io), M11 VCCIO8 (power), N3 VCCIO8 (power), N5 IO (83) (io), N8 CLK2p (125) (in), N9 IO/CLK2n (120) (io), N10 IO/nRS (98) (io), P4 IO (103) (io), P5 IO (106) (io), P8 IO (93) (io), P9 IO/nWS (91) (io), P12 VCCIO7 (power), R1 IO/LVDSTX08n (168) (io), R2 IO/LVDSTX08p (169) (io), R3 IO (105) (io), R4 IO (99) (io), R5 IO (148) (io), R6 CLK4p (119) (in), R7 IO/CLK4n (118) (io), R8 IO/DEV_OE (133) (io), R9 IO/DEV_CLRn (114) (io), T1 IO/LVDSTX09p (172) (io), T2 IO/LVDSTX09n (173) (io), T3 IO (167) (io), T4 IO (180) (io), T5 IO (154) (io), T6 IO/CS (112) (io), T8 IO/CLKLK_FB2n (116) (io), T10 VCCIO7 (power), U1 IO/LVDSTX10n (175) (io), U2 IO/LVDSTX10p (176) (io), U3 IO (200) (io), U4 IO (187) (io), U5 IO (174) (io), U6 IO/LOCK2 (141) (io), U7 IO/CLKLK_OUT2n (137) (io), V1 IO/LVDSTX11p (178) (io), V2 IO/LVDSTX11n (179) (io), V3 IO (202) (io), V4 IO (215) (io), V5 IO (213) (io), W1 IO/LVDSTX12n (181) (io), W2 IO/LVDSTX12p (182) (io), W3 IO (219) (io), W4 IO (193) (io), W5 IO (206) (io), W6 IO (208) (io), W7 IO/LOCK4 (161) (io), Y1 IO/LVDSTX13p (185) (io), Y2 IO/LVDSTX13n (186) (io), Y5 IO (221) (io), Y6 IO (232) (io)
part E pins: AA12 CONF_DONE (356) (io), AA13 nSTATUS (357) (io), AA14 TCK (365) (in), AA15 TMS (366) (in), AE20 CLKLK_FB1p (587) (in), AE23 CLKLK_OUT1p (602) (out), F14 TRST (827) (in), G13 TDO (836) (out), G14 nCEO (828) (out), N6 DATA0 (123) (in), N7 DCLK (124) (in), N20 MSEL1 (596) (in), N21 MSEL0 (597) (in), P6 nCE (126) (in), P7 TDI (127) (in), P16 CLKLK_ENA (594) (in), P21 nCONFIG (593) (in), T7 CLKLK_OUT2p (136) (out), U8 CLKLK_FB2p (117) (in)
part F pins: A2 GND (power), A3 VCCINT (power), A8 GND (power), A14 GND (power), A19 GND (power), A24 VCCINT (power), A25 GND (power), AC3 VCCINT (power), AC4 GND (power), AC23 GND (power), AC24 VCCINT (power), AC25 GND_CKLK3 (607) (power), AC26 VCC_CKLK3 (604) (power), AD1 VCCINT (power), AD2 VCCINT (power), AD3 GND (power), AD13 GND (power), AD24 GND (power), AD25 VCCINT (power), AD26 VCCINT (power), AE1 GND (power), AE2 GND (power), AE3 VCCINT (power), AE6 GND (power), AE8 VCCINT (power), AE18 GND_CKLK1 (583/584) (power), AE19 VCCINT (power), AE21 GND (power), AE22 GND_CKOUT1 (601) (power), AE24 VCCINT (power), AE25 GND (power), AE26 GND (power), AF2 GND (power), AF3 VCCINT (power), AF8 GND (power), AF14 GND (power), AF15 GND (power), AF18 VCC_CKLK1 (582) (power), AF19 GND (power), AF22 VCC_CKOUT1 (600) (power), AF24 VCCINT (power), AF25 GND (power), B1 GND (power), B2 GND (power), B3 VCCINT (power), B6 GND (power), B8 VCCINT (power), B19 VCCINT (power), B21 GND (power), B24 VCCINT (power), B25 GND (power), B26 GND (power), C1 VCCINT (power), C2 VCCINT (power), C3 GND (power), C13 GND (power), C24 GND (power), C25 VCCINT (power), C26 VCCINT (power), D3 VCCINT (power), D4 GND (power), D23 GND (power), D24 VCCINT (power), H8 GND (power), H19 GND (power), J9 GND (power), J18 GND (power), K10 GND (power), K11 VCCINT (power), K17 GND (power), L10 VCCINT (power), L11 GND (power), L13 GND (power), L15 VCCINT (power), L16 GND (power), M12 GND (power), M13 VCCINT (power), M15 GND (power), M16 VCCINT (power), N1 GND (power), N2 VCCINT (power), N4 GND (power), N11 VCC_CKLK2 (132) (power), N12 VCCINT (power), N13 GND (power), N14 GND (power), N25 GND_CKLK3 (606) (power), N26 GND (power), P1 GND (power), P2 GND (power), P3 GND (power), P10 VCC_CKLK4 (109) (power), P11 GND_CKLK2 (128/129) (power), P13 GND (power), P14 GND (power), P15 VCCINT (power), P23 GND (power), P24 VCCINT (power), P25 VCCINT (power), P26 GND (power), R10 GND_CKLK4 (110/111) (power), R11 VCCINT (power), R12 GND (power), R14 VCCINT (power), R15 GND (power), T11 GND (power), T12 VCCINT (power), T16 GND (power), T17 VCCINT (power), U9 VCCINT (power), U10 GND (power), U16 VCCINT (power), U17 GND (power), V6 GND_CKOUT2 (135) (power), V7 VCC_CKOUT2 (134) (power), V9 GND (power), V18 GND (power), W8 GND (power), W19 GND (power)

## EP20K1000EFC672-1X
designator U?
APEX 20K1000E PLD with PLLs and LVDS, 672-Pin FBGA, Commercial Grade, Speed Grade 1; Published: 17-Jul-2002; LatestRevisionDate: 13-Apr-2006; LatestRevisionNote: IPC-7351 Footprint Added.; DatasheetVersion: Mar-2004; PackageVersion: ver14.1, Oct-2005; PackageReference: FBGA672; Publisher: Altium Limited; PackageDescription: 672-Ball FineLine Ball Grid Array (FBGA672) - Flip Chip; Code_JEDEC: MS-034-AAL-1; ComponentLink1Description: Manufacturer Link; ComponentLink1URL: http://www.altera.com/products/devices/apex/apx-index.html; ComponentLink2Description: Datasheet; ComponentLink2URL: http://www.altera.com/literature/ds/apex.pdf
footprint FBGA672 (BGA, 672-Leads, Body 27x27mm, Pitch 1mm)
3D model EP20K1000E-FBGA672T (672-Ball FineLine Ball Grid Array (FBGA672) - Flip Chip)
part A pins: A4 IO (7) (io), A5 IO (5) (io), A6 VCCIO1 (power), A7 IO (935) (io), A9 IO (910) (io), A10 IO (868) (io), A11 IO (864) (io), A12 IO (856) (io), A13 VCCIO2 (power), A15 IO (825) (io), A16 VCCIO2 (power), A17 IO (803) (io), A18 IO (793) (io), A20 IO (763) (io), A22 IO (743) (io), A23 IO (728) (io), B4 IO (6) (io), B5 IO (2) (io), B7 IO (930) (io), B9 IO (895) (io), B10 IO (879) (io), B11 IO (860) (io), B12 IO (861) (io), B13 IO (845) (io), B14 IO (840) (io), B15 IO (823) (io), B16 IO (819) (io), B17 IO (801) (io), B18 IO (781) (io), B20 IO (762) (io), B22 IO (730) (io), B23 IO (727) (io), C5 IO (940) (io), C6 IO (1) (io), C7 IO (922) (io), C8 IO (917) (io), C9 IO (898) (io), C10 IO (880) (io), C11 IO (846) (io), C12 IO (844) (io), C14 IO (838) (io), C15 IO (821) (io), C16 IO (818) (io), C17 IO (797) (io), C18 IO (778) (io), C19 IO (765) (io), C20 IO (755) (io), C21 IO (738) (io), C22 IO (724) (io), C23 IO (720) (io), D6 IO (934) (io), D7 IO (933) (io), D8 IO (914) (io), D9 IO (902) (io), D10 IO (882) (io), D11 IO (875) (io), D12 IO (873) (io), D13 IO (858) (io), D14 IO (850) (io), D15 IO (848) (io), D16 IO (800) (io), D17 IO (784) (io), D18 IO (769) (io), D19 IO (760) (io), D20 IO (750) (io), D21 IO (734) (io), D22 IO (714) (io), E6 IO (938) (io), E7 IO (919) (io), E8 IO (916) (io), E9 IO (900) (io), E10 IO (885) (io), E11 IO (878) (io), E12 IO (866) (io), E13 IO (811) (io), E14 IO (805) (io), E15 IO (799) (io), E16 IO (788) (io), E17 IO (767) (io), E18 IO (761) (io), E19 IO (746) (io), E20 IO (740) (io), E21 IO (729) (io), E23 IO (713) (io), E24 IO (718) (io), F6 IO/DATA5 (942) (io), F7 IO (936) (io), F8 IO (918) (io), F9 IO (901) (io), F10 IO/DATA3 (907) (io), F11 IO (893) (io), F12 IO (863) (io), F13 FAST2 (835) (io), F15 IO (802) (io), F16 IO (783) (io), F17 IO (776) (io), F18 IO (764) (io), F19 IO (745) (io), F20 IO (732) (io), F23 IO (726) (io), F24 IO (715) (io), G9 IO/DATA4 (924) (io), G10 IO (920) (io), G11 IO (899) (io), G12 IO (897) (io), G15 IO (815) (io), G16 IO (790) (io), G17 IO (780) (io), G18 IO (757) (io), G19 IO (744) (io), G23 IO (722) (io), H10 IO (928) (io), H11 IO (912) (io), H12 IO (883) (io), H13 IO (862) (io), H14 FAST1 (829) (io), H15 IO (807) (io), H16 IO (795) (io), H17 IO (782) (io), H18 IO (752) (io), H23 IO (719) (io), J10 VCCIO1 (power), J11 IO (932) (io), J12 IO/DATA2 (887) (io), J13 IO (881) (io), J14 IO/RDYnBSY (847) (io), J15 IO/INIT_DONE (842) (io), J16 IO (817) (io), J17 IO (785) (io), J19 IO (742) (io), K12 IO (905) (io), K13 IO/DATA1 (870) (io), K14 IO/CLKUSR (852) (io), K15 IO (816) (io), K16 VCCIO2 (power), K18 IO (748) (io), L12 VCCIO1 (power), L14 IO (813) (io), M14 VCCIO2 (power)
part B pins: A21 VCCIO3 (power), AA21 IO (481) (io), AA22 IO (520) (io), AA25 IO/LVDSRX01p (614) (io), AA26 IO/LVDSRX01n (615) (io), AB21 IO (488) (io), AB22 IO (494) (io), AB25 IO/LVDSRXINCLK1p (608) (io), AB26 IO/LVDSRXINCLK1n (609) (io), AF20 IO/CLKLK_FB1n (586) (io), AF23 IO/CLKLK_OUT1n (603) (io), D25 IO/LVDSRX16n (662) (io), D26 IO/LVDSRX16p (663) (io), E22 IO (709) (io), E25 IO/LVDSRX15p (659) (io), E26 IO/LVDSRX15n (660) (io), F21 IO (707) (io), F22 IO (700) (io), F25 IO/LVDSRX14n (656) (io), F26 IO/LVDSRX14p (657) (io), G20 IO (702) (io), G21 IO (694) (io), G22 IO (674) (io), G24 IO (687) (io), G25 IO/LVDSRX13p (653) (io), G26 IO/LVDSRX13n (654) (io), H20 IO (676) (io), H21 IO (689) (io), H22 IO (681) (io), H24 IO (661) (io), H25 IO/LVDSRX12n (649) (io), H26 IO/LVDSRX12p (650) (io), J20 IO (670) (io), J21 IO (696) (io), J22 IO (683) (io), J23 IO (610) (io), J24 IO (622) (io), J25 IO/LVDSRX11p (646) (io), J26 IO/LVDSRX11n (647) (io), K19 IO (668) (io), K20 IO (642) (io), K21 IO (629) (io), K22 IO (648) (io), K23 IO (635) (io), K24 IO (655) (io), K25 IO/LVDSRX10n (643) (io), K26 IO/LVDSRX10p (644) (io), L17 VCCIO3 (power), L18 IO/LOCK3 (616) (io), L19 IO (611) (io), L20 IO (557) (io), L21 IO/LOCK1 (576) (io), L22 IO (575) (io), L23 IO (579) (io), L24 IO (580) (io), L25 IO/LVDSRX09p (640) (io), L26 IO/LVDSRX09n (641) (io), M17 IO (559) (io), M18 IO (561) (io), M19 CLK3p (589) (in), M20 IO/CLK3n (588) (io), M21 IO (569) (io), M22 IO (572) (io), M23 IO (574) (io), M24 IO (570) (io), M25 IO/LVDSRX08n (636) (io), M26 IO/LVDSRX08p (637) (io), N15 VCCIO3 (power), N16 IO (537) (io), N17 IO (544) (io), N18 IO (553) (io), N19 IO (555) (io), N22 IO (556) (io), N23 IO (581) (io), N24 VCCIO4 (power), P17 IO (531) (io), P18 IO (543) (io), P19 IO/CLK1n (590) (io), P20 CLK1p (595) (in), P22 IO (550) (io), R16 VCCIO4 (power), R17 IO (527) (io), R18 IO (533) (io), R19 IO (541) (io), R20 IO (549) (io), R21 IO (547) (io), R22 IO (573) (io), R23 IO (563) (io), R24 IO (567) (io), R25 IO/LVDSRX07p (633) (io), R26 IO/LVDSRX07n (634) (io), T18 IO (501) (io), T19 IO (529) (io), T20 IO (535) (io), T21 IO (546) (io), T22 IO (560) (io), T23 IO (562) (io), T24 IO (568) (io), T25 IO/LVDSRX06n (630) (io), T26 IO/LVDSRX06p (631) (io), U18 VCCIO4 (power), U19 IO (490) (io), U20 IO (522) (io), U21 IO (530) (io), U22 IO (548) (io), U23 IO (554) (io), U24 IO (566) (io), U25 IO/LVDSRX05p (627) (io), U26 IO/LVDSRX05n (628) (io), V19 IO (496) (io), V20 IO (507) (io), V21 IO (509) (io), V22 IO (540) (io), V23 IO (542) (io), V24 IO (536) (io), V25 IO/LVDSRX04n (623) (io), V26 IO/LVDSRX04p (624) (io), W21 IO (503) (io), W22 IO (516) (io), W23 IO (528) (io), W24 IO (534) (io), W25 IO/LVDSRX03p (620) (io), W26 IO/LVDSRX03n (621) (io), Y21 IO (514) (io), Y22 IO (483) (io), Y25 IO/LVDSRX02n (617) (io), Y26 IO/LVDSRX02p (618) (io)
part C pins: AA3 IO (258) (io), AA4 IO (245) (io), AA8 IO (286) (io), AA9 IO (281) (io), AA10 IO (308) (io), AA11 IO (314) (io), AA16 IO (409) (io), AA17 IO (427) (io), AA18 IO (434) (io), AA19 IO (447) (io), AA20 IO (465) (io), AA23 IO (476) (io), AA24 IO (477) (io), AB3 IO (251) (io), AB4 IO (244) (io), AB7 IO (263) (io), AB8 IO (271) (io), AB9 IO (295) (io), AB10 IO (312) (io), AB11 IO (310) (io), AB12 IO (335) (io), AB13 IO (385) (io), AB14 IO (389) (io), AB15 IO (399) (io), AB16 IO (404) (io), AB17 IO (422) (io), AB18 IO (429) (io), AB19 IO (462) (io), AB20 IO (461) (io), AB23 IO (478) (io), AB24 IO (467) (io), AC5 IO (246) (io), AC6 IO (269) (io), AC7 IO (275) (io), AC8 IO (288) (io), AC9 IO (298) (io), AC10 IO (313) (io), AC11 IO (391) (io), AC12 IO (377) (io), AC13 IO (375) (io), AC14 IO (379) (io), AC15 IO (395) (io), AC16 IO (411) (io), AC17 IO (414) (io), AC18 IO (436) (io), AC19 IO (457) (io), AC20 IO (463) (io), AC21 IO (471) (io), AC22 IO (469) (io), AD4 IO (257) (io), AD5 IO (260) (io), AD6 IO (261) (io), AD7 IO (276) (io), AD8 IO (292) (io), AD9 IO (306) (io), AD10 IO (381) (io), AD11 IO (347) (io), AD12 IO (348) (io), AD14 IO (369) (io), AD15 IO (373) (io), AD16 IO (374) (io), AD17 IO (376) (io), AD18 IO (392) (io), AD19 IO (408) (io), AD20 IO (428) (io), AD21 IO (448) (io), AD22 IO (451) (io), AD23 IO (464) (io), AE4 IO (250) (io), AE5 IO (259) (io), AE7 IO (279) (io), AE9 IO (315) (io), AE10 IO (329) (io), AE11 IO (345) (io), AE12 IO (351) (io), AE13 IO (355) (io), AE14 IO (367) (io), AE15 IO (371) (io), AE16 IO (426) (io), AE17 IO (441) (io), AF4 IO (253) (io), AF5 IO (273) (io), AF7 IO (283) (io), AF9 IO (320) (io), AF10 IO (337) (io), AF11 IO (325) (io), AF12 IO (353) (io), AF13 VCCIO6 (power), AF16 IO (431) (io), AF17 IO (445) (io), AF21 VCCIO5 (power), R13 VCCIO6 (power), T9 IO (277) (io), T13 IO (332) (io), T14 IO (407) (io), T15 VCCIO5 (power), U11 VCCIO6 (power), U12 IO/LVDSDESKEW (349) (io), U13 IO (341) (io), U14 IO (393) (io), U15 IO (416) (io), V8 IO (274) (io), V10 VCCIO6 (power), V11 IO (311) (io), V12 IO (327) (io), V13 IO (346) (io), V14 IO (387) (io), V15 IO (397) (io), V16 IO (424) (io), V17 VCCIO5 (power), W9 IO (294) (io), W10 IO (296) (io), W11 IO (323) (io), W12 IO (330) (io), W13 IO (343) (io), W14 IO (333) (io), W15 IO (402) (io), W16 IO (412) (io), W17 IO (439) (io), W18 IO (446) (io), W20 IO (453) (io), Y3 IO (255) (io), Y4 IO (249) (io), Y7 IO (265) (io), Y8 IO (291) (io), Y9 IO (293) (io), Y10 IO (300) (io), Y11 IO (318) (io), Y12 IO (331) (io), Y13 FAST4 (358) (io), Y14 FAST3 (364) (io), Y15 IO (390) (io), Y16 IO (410) (io), Y17 IO (430) (io), Y18 IO (443) (io), Y19 IO (449) (io), Y20 IO (459) (io), Y23 IO (472) (io), Y24 IO (473) (io)
part D pins: AA1 IO/LVDSTX14n (188) (io), AA2 IO/LVDSTX14p (189) (io), AA5 IO (228) (io), AA6 IO (234) (io), AA7 IO (239) (io), AB1 IO/LVDSTX15p (191) (io), AB2 IO/LVDSTX15n (192) (io), AB5 IO (226) (io), AB6 IO (241) (io), AC1 IO/LVDSTX16n (194) (io), AC2 IO/LVDSTX16p (195) (io), AF6 VCCIO7 (power), C4 IO (46) (io), D1 IO/LVDSTXINCLK1p (139) (io), D2 IO/LVDSTXINCLK1n (140) (io), D5 IO (31) (io), E1 IO/LVDSTXOUTCLK1n (142) (io), E2 IO/LVDSTXOUTCLK1p (143) (io), E3 IO (13) (io), E4 IO (24) (io), E5 IO (11) (io), F1 IO/LVDSTX01p (146) (io), F2 IO/LVDSTX01n (147) (io), F3 IO (26) (io), F4 IO (20) (io), F5 IO (18) (io), G1 IO/LVDSTX02n (149) (io), G2 IO/LVDSTX02p (150) (io), G3 IO (37) (io), G4 IO (44) (io), G5 IO (33) (io), G6 IO (50) (io), G7 IO (57) (io), G8 IO (39) (io), H1 IO/LVDSTX03p (152) (io), H2 IO/LVDSTX03n (153) (io), H3 IO (66) (io), H4 IO (59) (io), H5 IO (52) (io), H6 IO (60) (io), H7 IO (58) (io), H9 IO (64) (io), J1 IO/LVDSTX04n (155) (io), J2 IO/LVDSTX04p (156) (io), J3 IO (76) (io), J4 IO (70) (io), J5 IO (63) (io), J6 IO (72) (io), J7 IO (74) (io), J8 IO (65) (io), K1 IO/LVDSTX05p (159) (io), K2 IO/LVDSTX05n (160) (io), K3 IO (67) (io), K4 IO (80) (io), K5 IO (71) (io), K6 IO (79) (io), K7 IO (61) (io), K8 IO (77) (io), K9 VCCIO8 (power), L1 IO/LVDSTX06n (162) (io), L2 IO/LVDSTX06p (163) (io), L3 IO (97) (io), L4 IO (96) (io), L5 IO (92) (io), L6 IO (73) (io), L7 IO (87) (io), L8 IO/DATA6 (78) (io), L9 IO (89) (io), M1 IO/LVDSTX07p (165) (io), M2 IO/LVDSTX07n (166) (io), M3 IO (102) (io), M4 IO (113) (io), M5 IO (100) (io), M6 IO (86) (io), M7 IO (90) (io), M8 IO (84) (io), M9 IO/nCS (104) (io), M10 IO/DATA7 (85) (io), M11 VCCIO8 (power), N3 VCCIO8 (power), N5 IO (83) (io), N8 CLK2p (125) (in), N9 IO/CLK2n (120) (io), N10 IO/nRS (98) (io), P4 IO (103) (io), P5 IO (106) (io), P8 IO (93) (io), P9 IO/nWS (91) (io), P12 VCCIO7 (power), R1 IO/LVDSTX08n (168) (io), R2 IO/LVDSTX08p (169) (io), R3 IO (105) (io), R4 IO (99) (io), R5 IO (148) (io), R6 CLK4p (119) (in), R7 IO/CLK4n (118) (io), R8 IO/DEV_OE (133) (io), R9 IO/DEV_CLRn (114) (io), T1 IO/LVDSTX09p (172) (io), T2 IO/LVDSTX09n (173) (io), T3 IO (167) (io), T4 IO (180) (io), T5 IO (154) (io), T6 IO/CS (112) (io), T8 IO/CLKLK_FB2n (116) (io), T10 VCCIO7 (power), U1 IO/LVDSTX10n (175) (io), U2 IO/LVDSTX10p (176) (io), U3 IO (200) (io), U4 IO (187) (io), U5 IO (174) (io), U6 IO/LOCK2 (141) (io), U7 IO/CLKLK_OUT2n (137) (io), V1 IO/LVDSTX11p (178) (io), V2 IO/LVDSTX11n (179) (io), V3 IO (202) (io), V4 IO (215) (io), V5 IO (213) (io), W1 IO/LVDSTX12n (181) (io), W2 IO/LVDSTX12p (182) (io), W3 IO (219) (io), W4 IO (193) (io), W5 IO (206) (io), W6 IO (208) (io), W7 IO/LOCK4 (161) (io), Y1 IO/LVDSTX13p (185) (io), Y2 IO/LVDSTX13n (186) (io), Y5 IO (221) (io), Y6 IO (232) (io)
part E pins: AA12 CONF_DONE (356) (io), AA13 nSTATUS (357) (io), AA14 TCK (365) (in), AA15 TMS (366) (in), AE20 CLKLK_FB1p (587) (in), AE23 CLKLK_OUT1p (602) (out), F14 TRST (827) (in), G13 TDO (836) (out), G14 nCEO (828) (out), N6 DATA0 (123) (in), N7 DCLK (124) (in), N20 MSEL1 (596) (in), N21 MSEL0 (597) (in), P6 nCE (126) (in), P7 TDI (127) (in), P16 CLKLK_ENA (594) (in), P21 nCONFIG (593) (in), T7 CLKLK_OUT2p (136) (out), U8 CLKLK_FB2p (117) (in)
part F pins: A2 GND (power), A3 VCCINT (power), A8 GND (power), A14 GND (power), A19 GND (power), A24 VCCINT (power), A25 GND (power), AC3 VCCINT (power), AC4 GND (power), AC23 GND (power), AC24 VCCINT (power), AC25 GND_CKLK3 (607) (power), AC26 VCC_CKLK3 (604) (power), AD1 VCCINT (power), AD2 VCCINT (power), AD3 GND (power), AD13 GND (power), AD24 GND (power), AD25 VCCINT (power), AD26 VCCINT (power), AE1 GND (power), AE2 GND (power), AE3 VCCINT (power), AE6 GND (power), AE8 VCCINT (power), AE18 GND_CKLK1 (583/584) (power), AE19 VCCINT (power), AE21 GND (power), AE22 GND_CKOUT1 (601) (power), AE24 VCCINT (power), AE25 GND (power), AE26 GND (power), AF2 GND (power), AF3 VCCINT (power), AF8 GND (power), AF14 GND (power), AF15 GND (power), AF18 VCC_CKLK1 (582) (power), AF19 GND (power), AF22 VCC_CKOUT1 (600) (power), AF24 VCCINT (power), AF25 GND (power), B1 GND (power), B2 GND (power), B3 VCCINT (power), B6 GND (power), B8 VCCINT (power), B19 VCCINT (power), B21 GND (power), B24 VCCINT (power), B25 GND (power), B26 GND (power), C1 VCCINT (power), C2 VCCINT (power), C3 GND (power), C13 GND (power), C24 GND (power), C25 VCCINT (power), C26 VCCINT (power), D3 VCCINT (power), D4 GND (power), D23 GND (power), D24 VCCINT (power), H8 GND (power), H19 GND (power), J9 GND (power), J18 GND (power), K10 GND (power), K11 VCCINT (power), K17 GND (power), L10 VCCINT (power), L11 GND (power), L13 GND (power), L15 VCCINT (power), L16 GND (power), M12 GND (power), M13 VCCINT (power), M15 GND (power), M16 VCCINT (power), N1 GND (power), N2 VCCINT (power), N4 GND (power), N11 VCC_CKLK2 (132) (power), N12 VCCINT (power), N13 GND (power), N14 GND (power), N25 GND_CKLK3 (606) (power), N26 GND (power), P1 GND (power), P2 GND (power), P3 GND (power), P10 VCC_CKLK4 (109) (power), P11 GND_CKLK2 (128/129) (power), P13 GND (power), P14 GND (power), P15 VCCINT (power), P23 GND (power), P24 VCCINT (power), P25 VCCINT (power), P26 GND (power), R10 GND_CKLK4 (110/111) (power), R11 VCCINT (power), R12 GND (power), R14 VCCINT (power), R15 GND (power), T11 GND (power), T12 VCCINT (power), T16 GND (power), T17 VCCINT (power), U9 VCCINT (power), U10 GND (power), U16 VCCINT (power), U17 GND (power), V6 GND_CKOUT2 (135) (power), V7 VCC_CKOUT2 (134) (power), V9 GND (power), V18 GND (power), W8 GND (power), W19 GND (power)